# Altium footprint library SMBF_S4.PcbLib: 1 footprints
Each footprint in its own frame and in the unit in brackets; x right, y up, seen from the top. Pads: shape width x height; smd on the part's side, far side on the other; paste and mask are expansions set on the pad; w line width, h text height; cw(c..) or ccw(c..) is an arc to the next point about the centre after c.
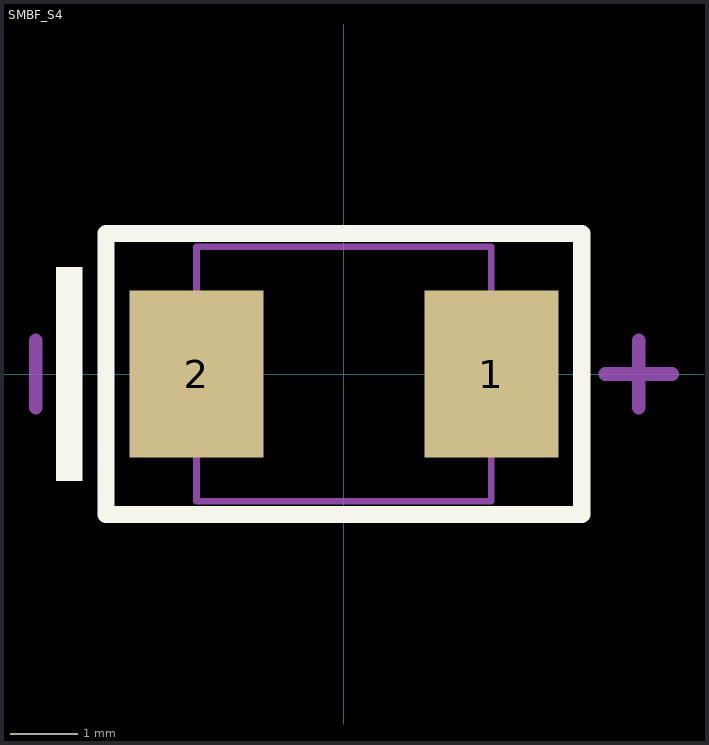
[diagram p0: the footprint, top view; thin cyan lines are the x and y axes]

## SMBF_S4 [mm]
pads (2):
  rect 2x2.5 smd: 1(2.2,0) 2(-2.2,0)
Top Overlay:
  rectangle: -4.3,-1.6 -3.9,1.6
  lines w0.254: -3.55,-2.1 -3.55,2.1 3.55,2.1 3.55,-2.1 -3.55,-2.1
Mechanical 13:
  lines w0.1: -2.2,-1.9 -2.2,1.9 2.2,1.9 2.2,-1.9 -2.2,-1.9
Mechanical 15:
  lines w0.203: -4.6,-0.5 -4.6,0.5 ; 3.9,0 4.9,0 ; 4.4,-0.5 4.4,0.5